# EAGLE library part HDSP0762 (library display-hp)
LED DISPLAY 1-character dot matrix without decimal point
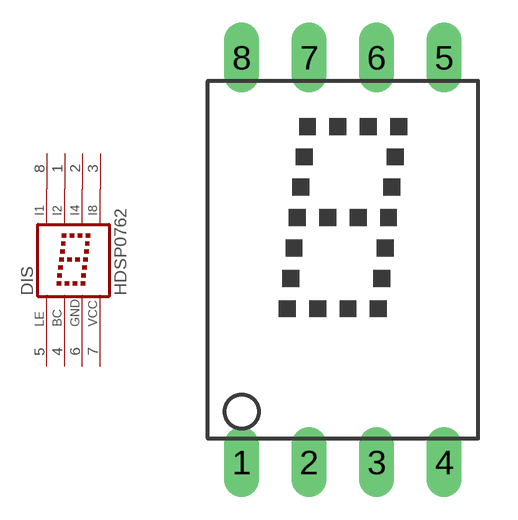
[diagram p38: symbol with the pads of HD-0762; footprint HD-0762]

Designator prefix DIS

## HDSP0762 (MF: AGILENT TECHNOLOGIES; MPN: HDSP-0762; OC_FARNELL: 9869883; OC_NEWARK: 39K9789)  [HD-0762]
1  I2  in
2  I4  in
3  I8  in
4  BC  in
5  LE  in
6  GND  pwr
7  VCC  pwr
8  I1  in

## Footprint HD-0762 (pad centres in mm)
LED DISPLAY 8-mm 1 character dot matrix without decimal point
drill 0.813 long: 1 -3.81,-7.62; 2 -1.27,-7.62; 3 1.27,-7.62; 4 3.81,-7.62; 5 3.81,7.62; 6 1.27,7.62; 7 -1.27,7.62; 8 -3.81,7.62